# EAGLE library part TSW-S-13_S (library con-samtec-tsw)
HEADER
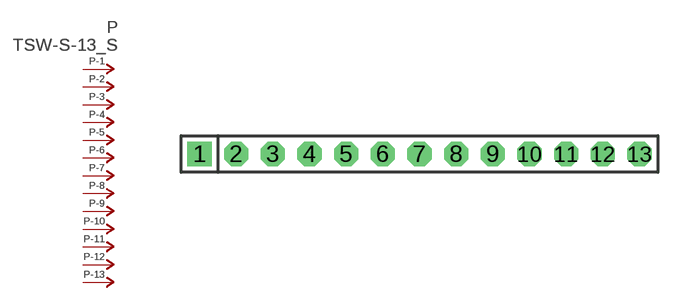
[diagram p52: symbol with the pads of TSW-S-13; footprint TSW-S-13]

Designator prefix P; gates -1=P-NV -2=P-N -3=P-N -4=P-N -5=P-N -6=P-N -7=P-N -8=P-N -9=P-N -10=P-N -11=P-N -12=P-N -13=P-N

## TSW-S-13_S  [TSW-S-13]
1  -1:P  pas
2  -2:P  pas
3  -3:P  pas
4  -4:P  pas
5  -5:P  pas
6  -6:P  pas
7  -7:P  pas
8  -8:P  pas
9  -9:P  pas
10  -10:P  pas
11  -11:P  pas
12  -12:P  pas
13  -13:P  pas

## Footprint TSW-S-13 (pad centres in mm)
HEADER
drill 0.914 pad 1.676 square: 1 -15.24,0
drill 0.914 pad 1.676 octagon: 2 -12.7,0; 3 -10.16,0; 4 -7.62,0; 5 -5.08,0; 6 -2.54,0; 7 0,0; 8 2.54,0; 9 5.08,0; 10 7.62,0; 11 10.16,0; 12 12.7,0; 13 15.24,0